# EAGLE library part N64 (library retrode-org)
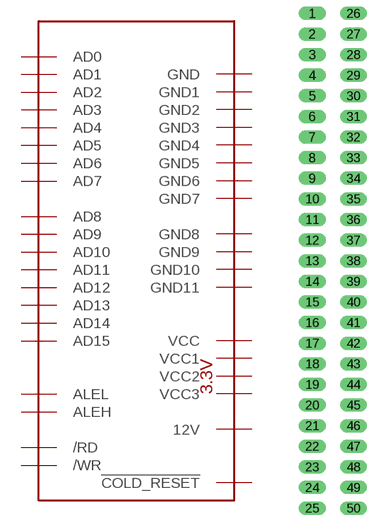
[diagram p2: symbol with the pads of N64_SLOT; footprint N64_SLOT]

Designator prefix -

## N64  [N64_SLOT]

## N64N64_SLOT  [N64_SLOT]
1  GND
2  GND1
3  AD15
4  AD14
5  AD13
6  GND2
7  AD12
8  /WR
9  VCC
10  /RD
11  AD11
12  AD10
13  12V
15  AD9
16  AD8
17  VCC1
20  !COLD_RESET
22  GND3
23  GND4
25  GND5
26  GND6
27  GND7
28  AD0
29  AD1
30  AD2
31  GND8
32  AD3
33  ALEL
34  VCC2
35  ALEH
36  AD4
37  AD5
40  AD6
41  AD7
42  VCC3
47  GND9
48  GND10
50  GND11

## Footprint N64_SLOT (pad centres in mm)
drill 1.1 pad 1.27 long: 1 -2.5,30; 2 -2.5,27.5; 3 -2.5,25; 4 -2.5,22.5; 5 -2.5,20; 6 -2.5,17.5; 7 -2.5,15; 8 -2.5,12.5; 9 -2.5,10; 10 -2.5,7.5; 11 -2.5,5; 12 -2.5,2.5; 13 -2.5,0; 14 -2.5,-2.5; 15 -2.5,-5; 16 -2.5,-7.5; 17 -2.5,-10; 18 -2.5,-12.5; 19 -2.5,-15; 20 -2.5,-17.5; 21 -2.5,-20; 22 -2.5,-22.5; 23 -2.5,-25; 24 -2.5,-27.5; 25 -2.5,-30; 26 2.5,30; 27 2.5,27.5; 28 2.5,25; 29 2.5,22.5; 30 2.5,20; 31 2.5,17.5; 32 2.5,15; 33 2.5,12.5; 34 2.5,10; 35 2.5,7.5; 36 2.5,5; 37 2.5,2.5; 38 2.5,0; 39 2.5,-2.5; 40 2.5,-5; 41 2.5,-7.5; 42 2.5,-10; 43 2.5,-12.5; 44 2.5,-15; 45 2.5,-17.5; 46 2.5,-20; 47 2.5,-22.5; 48 2.5,-25; 49 2.5,-27.5; 50 2.5,-30